# Altium schematic symbol library PFET_SOT323.SchLib: 1 symbol
Pins are listed as number, name and electrical type; pins without a type are passive.

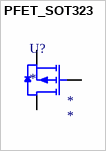
[diagram p0: symbol PFET_SOT323]

## PFET_SOT323
designator U?
Manufacturer: *; Manufacturer Part Number: *
pins: D, G, S